# Altium footprint library PCB_Other.PcbLib: 29 footprints (part 1 of 2)
Each footprint in its own frame and in the unit in brackets; x right, y up, seen from the top. Pads: shape width x height; smd on the part's side, far side on the other; paste and mask are expansions set on the pad; w line width, h text height; cw(c..) or ccw(c..) is an arc to the next point about the centre after c.
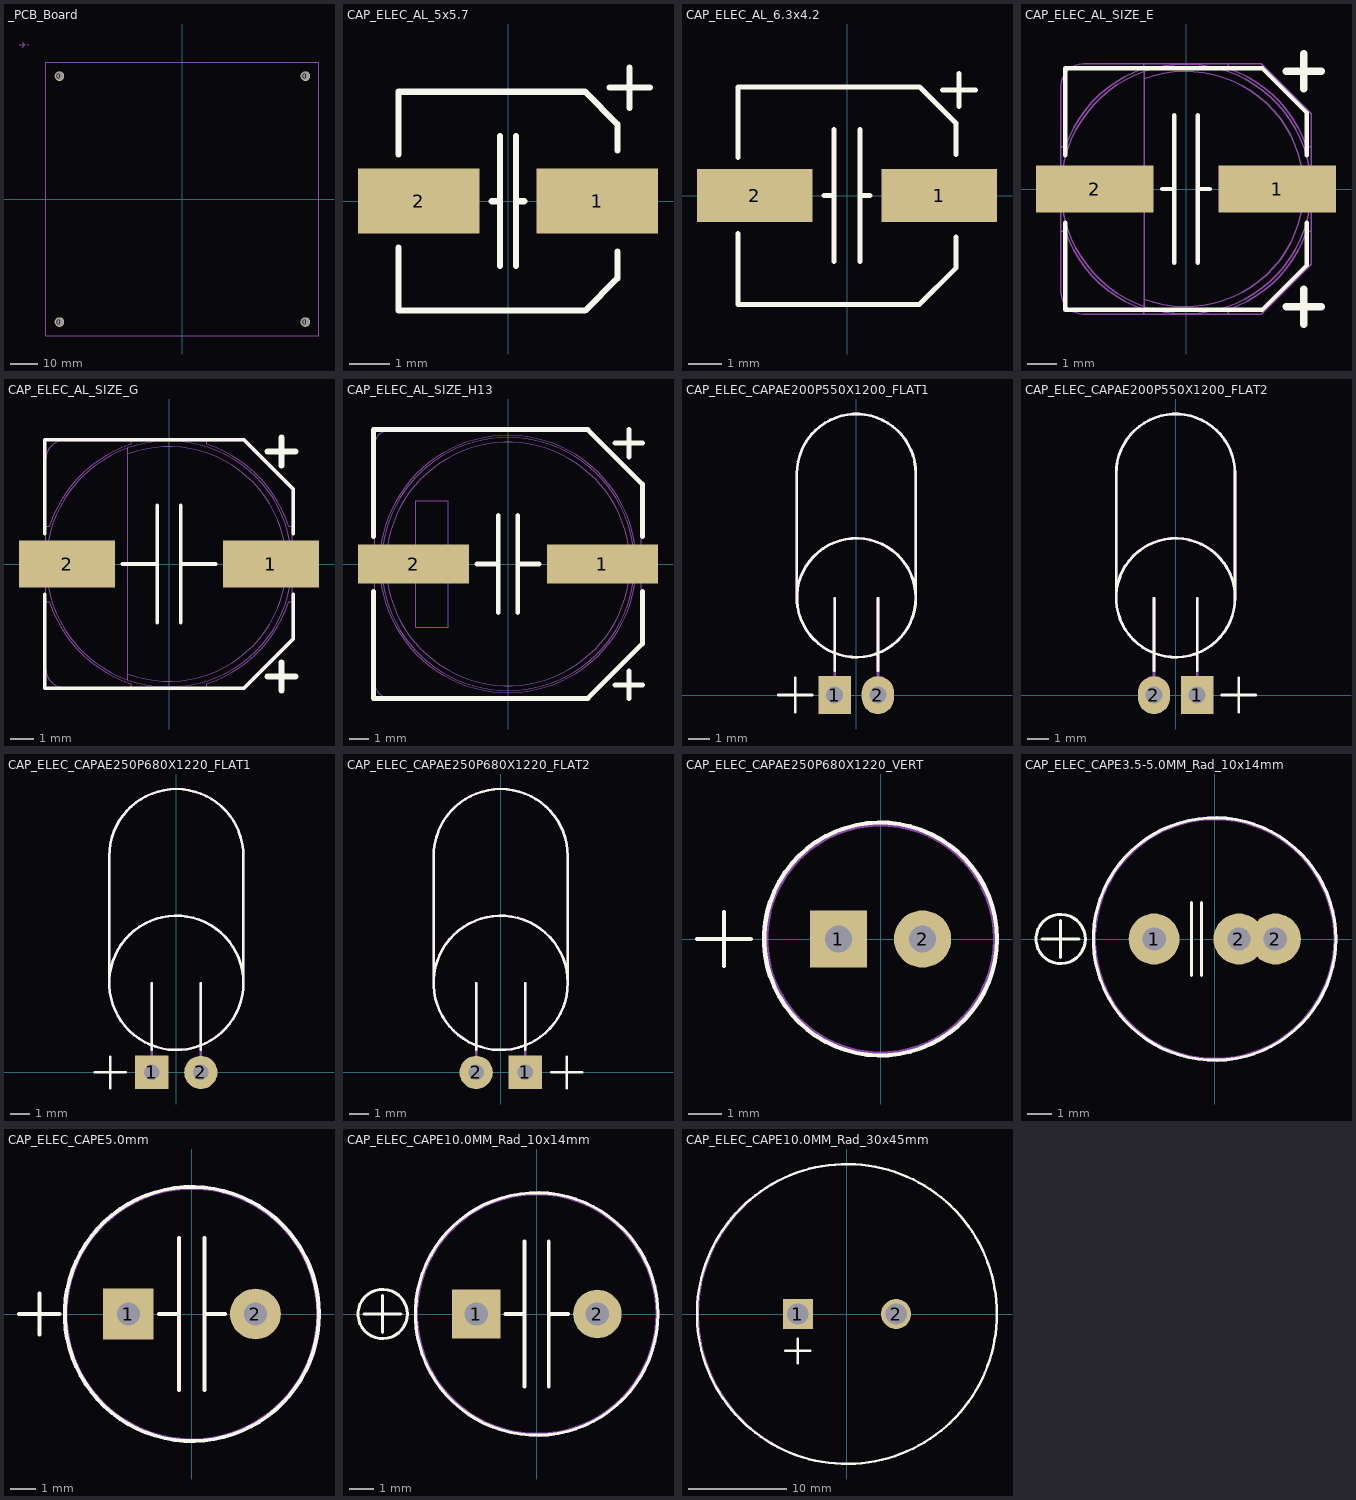
[diagram p0: the footprints below, top view; thin cyan lines are the x and y axes]

## 3D Model [mm]
3D body: height 0.84, standoff 0, extent -5.715,-8.255 0.885,-5.055
3D body: height 0.65, standoff 0, extent -5.715,-1.905 -2.515,0.595
3D body: height 0.65, standoff 0, extent -5.715,0.889 -2.515,2.489
3D body: height 0.7, standoff 0, extent -5.715,-4.699 -0.715,-2.199
3D body: height 0.5, standoff 0, extent -5.715,4.318 -4.115,5.118
3D body: height 0.95, standoff 0, extent 1.905,4.318 3.505,5.118
3D body: height 0.92, standoff 0, extent -1.905,4.318 -0.305,5.118
3D body: height 0.4, standoff 0, extent -5.715,5.334 -4.715,5.834
3D body: height 0.6, standoff 0, extent 1.905,5.334 2.905,5.834
3D body: height 0.56, standoff 0, extent -1.905,5.334 -0.905,5.834
3D body: height 2.8, standoff 0, extent 53.1,-25.428 63.486,-9.878
3D body: height 1.25, standoff 0, extent 33.983,-15.25 40.439,-10.15
3D body: height 1.75, standoff 0, extent 34.056,-25.198 40.112,-16.458
3D body: height 1.35, standoff 0, extent 42.089,-24.322 52.145,-10.222
3D body: height 1.35, standoff 0, extent 24.878,-22.556 33.034,-9.956
3D body: height 2.79, standoff 0, extent 13.354,-20.617 23.73,-10.117
3D body: height 0.7, standoff 0, extent 13.551,-7.384 15.151,-6.586
3D body: height 1.35, standoff 0, extent -5.597,-25.663 10.424,-9.642
3D body: height 1.75, standoff 0, extent 4.355,-33.618 10.377,-27.596
3D body: height 1, standoff -1, extent 19.586,-5.572 23.086,-3.572
3D body: height 1.49, standoff -1.13, extent 13.021,-5.999 18.221,-3.399
3D body: height 3.1, standoff -4.5, extent -5.286,-32.385 0.714,-27.685
3D body: height 0.33, standoff 0, extent -1.905,5.969 -1.305,6.269
3D body: height 0.33, standoff 0, extent -5.715,5.969 -5.115,6.269
3D body: height 1.05, standoff 0, extent 1.905,2.794 3.905,3.994
3D body: height 1.3, standoff 0, extent 1.905,0.889 5.105,2.489
3D body: height 1.35, standoff 0, extent 1.905,-1.905 5.105,0.595
3D body: height 0.6, standoff 0, extent -5.715,2.794 -3.715,3.994
3D body: height 1.27, standoff 0, extent -1.905,2.794 0.095,3.994
3D body: height 1.52, standoff 0, extent -1.905,0.889 1.295,2.489
3D body: height 1.9, standoff 0, extent -1.905,-1.905 1.295,0.595

## _PCB_Board [mm]
pads (4):
  round 3.5 hole 3: 0(-45,-45) 0(-45,45) 0(45,-45) 0(45,45)
Mechanical 1:
  lines w0.025: -56.642,56.388 -56.388,56.642 ; -56.642,56.642 -56.388,56.388 ; -50,-50 50,-50 50,50 -50,50 -50,-50
  lines w0.254: -59.797,56.49 -57.765,56.49 ; -58.654,55.601 -57.765,56.49 ; -58.654,57.379 -57.765,56.49
  text "V-Cut" at -67.036,55.855 h1.52
  text ".This is Cut Layer" at -50.165,-52.705 h1.52
Drill Drawing:
  text ".This is Drill Layer" at -50.165,-56.515 h1.52

## CAP_ELEC_AL_5x5.7 [mm] "Capacitor, polarized, aluminum can; 5x5.7mm DxH"
height 5.7
pads (2):
  rect 3x1.6 smd: 1(2.2,0) 2(-2.2,0)
Top Overlay:
  lines w0.152: -2.7,-1.15 -2.7,-2.7 1.9,-2.7 2.7,-1.9 2.7,-1.25 ; -2.7,1.15 -2.7,2.7 1.9,2.7 2.7,1.9 2.7,1.25 ; -0.4,0 -0.2,0 ; -0.2,-1.6 -0.2,1.6 ; 0.2,-1.6 0.2,1.6 ; 0.2,0 0.4,0 ; 2.5,2.8 3,2.8 3.5,2.8 ; 3,2.3 3,3.3
3D body: height 5.7, standoff 0, extent -2.65,-2.65 2.65,2.65

## CAP_ELEC_AL_6.3x4.2 [mm] "Capacitor, polarized, aluminum can; 6.3x4.2mm DxH"
height 4.2
pads (2):
  rect 3.5x1.6 smd: 1(2.8,0) 2(-2.8,0)
Top Overlay:
  lines w0.152: -3.3,-1.15 -3.3,-3.3 2.2,-3.3 3.3,-2.2 3.3,-1.25 ; -3.3,1.15 -3.3,3.3 2.2,3.3 3.3,2.2 3.3,1.25 ; -0.7,0 -0.5,0 ; -0.4,-2 -0.4,2 ; 0.4,-2 0.4,2 ; 0.5,0 0.7,0 ; 2.9,3.2 3.4,3.2 3.9,3.2 ; 3.4,2.7 3.4,3.7
3D body: height 4.23, standoff 0, extent -3.3,-3.3 3.3,3.3

## CAP_ELEC_AL_SIZE_E [mm] "Capacitor, polarized, aluminum can; 8.0x6.2mm DxH"
height 6.2
pads (2):
  rect 4x1.6 smd: 1(3.1,0) 2(-3.1,0)
Top Overlay:
  lines w0.152: -4.1,-1.15 -4.1,-4.1 2.6,-4.1 4.1,-2.6 4.1,-1.15 ; -4.1,1.15 -4.1,4.1 2.6,4.1 4.1,2.6 4.1,1.15 ; -0.8,0 -0.4,0 ; -0.4,-2.5 -0.4,2.5 ; 0.4,-2.5 0.4,2.5 ; 0.4,0 0.8,0
  lines w0.254: 3.4,-4 4.6,-4 ; 3.4,4 4.6,4 ; 4,-4.6 4,-3.4 ; 4,3.4 4,4.6
Mechanical 13:
  lines w0.05: -4.25,-1.436 -4.106,-1.436 ccw(c0,0) -1.436,-4.106 -1.436,-4.25 ; -4.25,-0.325 -4.75,-0.325 -4.75,0.325 -4.25,0.325 ; -4.25,1.436 -4.106,1.436 cw(c0,0) -1.436,4.106 -1.436,4.25 ; -1.417,-4.005 cw(c0,0) -1.417,4.005 ; -1.417,-3.741 ccw(c0,0) -1.417,3.741 ; 1.436,-4.25 1.436,-4.106 ccw(c0,0) 4.106,-1.436 4.25,-1.436 ; 1.436,4.25 1.436,4.106 cw(c0,0) 4.106,1.436 4.25,1.436 ; 4.25,-0.325 4.75,-0.325 4.75,0.325 4.25,0.325 ; -4.25,-3.5 ccw(c-3.5,-3.5) -3.5,-4.25 2.55,-4.25 4.25,-2.55 4.25,2.55 2.55,4.25 -3.5,4.25 ccw(c-3.5,3.5) -4.25,3.5 -4.25,-3.5 ; -1.417,-4.007 ccw(c0,0) -1.417,4.007 -1.417,-4.007
3D body: height 6.5, standoff 0, extent -4.75,-4.25 4.75,4.25

## CAP_ELEC_AL_SIZE_G [mm] "Capacitor, polarized, aluminum can; 10.0x10.2mm DxH"
height 10.2
pads (2):
  rect 4.1x2 smd: 1(4.35,0) 2(-4.35,0)
Top Overlay:
  lines w0.152: -5.3,-1.3 -5.3,-5.3 3.2,-5.3 5.3,-3.2 5.3,-1.3 ; -5.3,1.3 -5.3,5.3 3.2,5.3 5.3,3.2 5.3,1.3 ; -2,0 -0.5,0 ; -0.5,-2.5 -0.5,2.5 ; 0.5,-2.5 0.5,2.5 ; 0.5,0 2,0
  lines w0.254: 4.2,-4.8 5.4,-4.8 ; 4.2,4.8 5.4,4.8 ; 4.8,-5.4 4.8,-4.2 ; 4.8,4.2 4.8,5.4
Mechanical 13:
  lines w0.05: -5.25,-1.601 -5.105,-1.601 ccw(c0,0) -1.601,-5.105 -1.601,-5.25 ; -5.25,-0.45 -6,-0.45 -6,0.45 -5.25,0.45 ; -5.25,1.601 -5.105,1.601 cw(c0,0) -1.601,5.105 -1.601,5.25 ; -1.75,-4.948 cw(c0,0) -1.75,4.948 ; -1.75,-4.684 ccw(c0,0) -1.75,4.684 ; 1.601,-5.25 1.601,-5.105 ccw(c0,0) 5.105,-1.601 5.25,-1.601 ; 1.601,5.25 1.601,5.105 cw(c0,0) 5.105,1.601 5.25,1.601 ; 5.25,-0.45 6,-0.45 6,0.45 5.25,0.45 ; -5.25,-4.5 ccw(c-4.5,-4.5) -4.5,-5.25 3.15,-5.25 5.25,-3.15 5.25,3.15 3.15,5.25 -4.5,5.25 ccw(c-4.5,4.5) -5.25,4.5 -5.25,-4.5 ; -1.75,-4.95 ccw(c0,0) -1.75,4.95 -1.75,-4.95
3D body: height 10.5, standoff 0, extent -6,-5.25 6,5.25

## CAP_ELEC_AL_SIZE_H13 [mm] "Capacitor, polarized, aluminum can; 12.5x13.5mm DxH"
height 13.5
pads (2):
  rect 5.7x2 smd: 1(4.85,0) 2(-4.85,0)
Top Overlay:
  lines w0.254: -6.9,-1.4 -6.9,-6.9 4.1,-6.9 6.9,-4.1 6.9,-1.4 ; -6.9,1.4 -6.9,6.9 4.1,6.9 6.9,4.1 6.9,1.4 ; -1.6,0 -0.5,0 ; -0.5,-2.5 -0.5,2.5 ; 0.5,-2.5 0.5,2.5 ; 0.5,0 1.6,0 ; 5.5,-6.2 6.9,-6.2 ; 5.5,6.2 6.9,6.2 ; 6.2,-6.9 6.2,-5.5 ; 6.2,5.5 6.2,6.9
Mechanical 13:
  circle w0.05: c0,0 r6.25
  circle w0.05: c0,0 r6.5
  circle w0.05: c0,0 r6.6
  lines w0.05: -6.85,-0.45 -7.5,-0.45 -7.5,0.45 -6.85,0.45 ; 6.85,-0.45 7.5,-0.45 7.5,0.45 6.85,0.45 ; -6.85,-6.1 ccw(c-6.1,-6.1) -6.1,-6.85 4.11,-6.85 6.85,-4.11 6.85,4.11 4.11,6.85 -6.1,6.85 ccw(c-6.1,6.1) -6.85,6.1 -6.85,-6.1 ; -4.745,-3.25 -4.745,3.25 -3.055,3.25 -3.055,-3.25 -4.745,-3.25
3D body: height 14, standoff 0, extent -7.5,-6.85 7.5,6.85

## CAP_ELEC_CAPAE200P550X1200_FLAT1 [mil]
height 216.54
pads (2):
  rect 60x70 hole 31.5: 1(-40,0)
  oval 60x70 hole 31.5: 2(40,0)
Top Overlay:
  circle w5: c0,180 r110
  lines w5: -144.57,0 -81.57,0 ; -113.07,-31.5 -113.07,31.5 ; -110,180 -110,410 cw(c0,410) 110,410 110,180 ; -40,45 -40,179.21 ; 40,45 40,179.21
Mechanical 13:
  circle w5: c0,180 r110
  lines w5: -110,180 -110,410 cw(c0,410) 110,410 110,180 ; -40,0 -40,179.21 ; 40,0 40,179.21
3D body: height 215.69, standoff -70, extent -107.37,-9.82 107.35,502.05

## CAP_ELEC_CAPAE200P550X1200_FLAT2 [mil]
height 216.54
pads (2):
  rect 60x70 hole 31.5: 1(40,0)
  oval 60x70 hole 31.5: 2(-40,0)
Top Overlay:
  circle w5: c0,180 r110
  lines w5: -110,180 -110,410 cw(c0,410) 110,410 110,180 ; -40,45 -40,179.21 ; 40,45 40,179.21 ; 85.43,0 148.43,0 ; 116.93,-31.5 116.93,31.5
Mechanical 13:
  circle w5: c0,180 r110
  lines w5: -110,180 -110,410 cw(c0,410) 110,410 110,180 ; -40,0 -40,179.21 ; 40,0 40,179.21
3D body: height 215.69, standoff -70, extent -107.33,-9.82 107.39,502.05

## CAP_ELEC_CAPAE250P680X1220_FLAT1 [mm]
height 6.8
pads (2):
  rect 1.7x1.7 hole 0.8: 1(-1.25,0)
  round 1.7 hole 0.8: 2(1.25,0)
Top Overlay:
  circle w0.127: c0,4.572 r3.429
  lines w0.127: -4.18,0 -2.58,0 ; -3.429,4.572 -3.429,11.049 cw(c0,11.049) 3.429,11.049 3.429,4.572 ; -3.38,-0.8 -3.38,0.8 ; -1.25,1.143 -1.25,4.552 ; 1.25,1.143 1.25,4.552
Mechanical 13:
  circle w0.127: c0,4.572 r3.429
  lines w0.127: -3.429,4.572 -3.429,11.049 cw(c0,11.049) 3.429,11.049 3.429,4.572 ; -1.25,0 -1.25,4.552 ; 1.25,0 1.25,4.552
3D body: height 6.77, standoff -1.78, extent -3.372,-0.249 3.371,12.952

## CAP_ELEC_CAPAE250P680X1220_FLAT2 [mm]
height 6.8
pads (2):
  rect 1.7x1.7 hole 0.8: 1(1.25,0)
  round 1.7 hole 0.8: 2(-1.25,0)
Top Overlay:
  circle w0.127: c0,4.572 r3.429
  lines w0.127: -3.429,4.572 -3.429,11.049 cw(c0,11.049) 3.429,11.049 3.429,4.572 ; -1.25,1.143 -1.25,4.552 ; 1.25,1.143 1.25,4.552 ; 2.58,0 4.18,0 ; 3.38,-0.8 3.38,0.8
Mechanical 13:
  circle w0.127: c0,4.572 r3.429
  lines w0.127: -3.429,4.572 -3.429,11.049 cw(c0,11.049) 3.429,11.049 3.429,4.572 ; -1.25,0 -1.25,4.552 ; 1.25,0 1.25,4.552
3D body: height 6.77, standoff -1.78, extent -3.371,-0.249 3.372,12.952

## CAP_ELEC_CAPAE250P680X1220_VERT [mm]
height 12.2
pads (2):
  rect 1.7x1.7 hole 0.8: 1(-1.25,0)
  round 1.7 hole 0.8: 2(1.25,0)
Top Overlay:
  circle w0.127: c0,0 r3.459
  lines w0.127: -5.45,0 -3.85,0 ; -4.65,-0.8 -4.65,0.8
Mechanical 13:
  circle w0.127: c0,0 r3.4
3D body: height 12.2, standoff -1.78, extent -3.372,-3.372 3.371,3.372

## CAP_ELEC_CAPE3.5-5.0MM_Rad_10x14mm [mm] "3.5 & 5.0mm Pitch Radial Capacitor 10x14mm DxH"
height 14
pads (3):
  round 2.1 hole 0.965: 1(-2.5,0) 2(1,0) 2(2.5,0)
Top Overlay:
  circle w0.127: c0,0 r5
  circle w0.127: c-6.35,0 r1.016
  lines w0.127: -7.112,0 -5.588,0 ; -6.35,-0.762 -6.35,0.762 ; -0.95,-1.5 -0.95,1.5 ; -0.55,-1.5 -0.55,1.5
Mechanical 13:
  circle w0.127: c0,0 r4.953
Mechanical 14:
  circle w0.127: c0,0 r5
3D body: height 13.99, standoff -3.51, extent -5.25,-5.237 5.206,5.237

## CAP_ELEC_CAPE5.0mm [mm]
height 20
pads (2):
  rect 2x2 hole 0.9: 1(-2.5,0)
  round 2 hole 0.9: 2(2.5,0)
Top Overlay:
  circle w0.152: c0,0 r5
  lines w0.152: -6.8,0 -5.2,0 ; -6,-0.8 -6,0.8 ; -1.3,0 -0.5,0 ; -0.5,-3 -0.5,3 ; 0.5,-3 0.5,3 ; 0.5,0 1.3,0
Mechanical 13:
  circle w0.127: c0,-0.003 r4.953
3D body: height 20, standoff -3.5, extent -4.958,-4.968 4.953,4.961

## CAP_ELEC_CAPE10.0MM_Rad_10x14mm [mm] "10mm Pitch Radial Capacitor 10x14mm DxH"
height 14
pads (2):
  rect 2x2 hole 0.965: 1(-2.5,0)
  round 2 hole 0.965: 2(2.5,0)
Top Overlay:
  circle w0.127: c-6.35,0 r1.016
  circle w0.127: c0,0 r5
  lines w0.127: -7.112,0 -5.588,0 ; -6.35,-0.762 -6.35,0.762
  lines w0.152: -1.3,0.003 -0.5,0.003 ; -0.5,-2.997 -0.5,3.003 ; 0.5,-2.997 0.5,3.003 ; 0.5,0.003 1.3,0.003
Mechanical 13:
  circle w0.127: c0,0 r4.953
Mechanical 14:
  circle w0.127: c0,0 r5
3D body: height 13.99, standoff -3.51, extent -5.25,-5.237 5.206,5.237

## CAP_ELEC_CAPE10.0MM_Rad_30x45mm [mil] "10mm Pitch Radial Capacitor"
height 1771.65
pads (2):
  rect 120x120 hole 86: 1(-196.85,0)
  round 120 hole 86: 2(196.85,0)
Top Overlay:
  circle w10: c0,0 r600.39
  lines w10: -246.06,-147.64 -147.64,-147.64 ; -196.85,-196.85 -196.85,-98.43
Mechanical 15:
  circle w5: c3.15,0 r597.8
3D body: height 1771.65, standoff -137.8, extent -585.73,-588.1 589.23,588.11